# EAGLE library part P084D (library pot)
4-GANG POTENTIOMETER P08 Series, BI Technologies
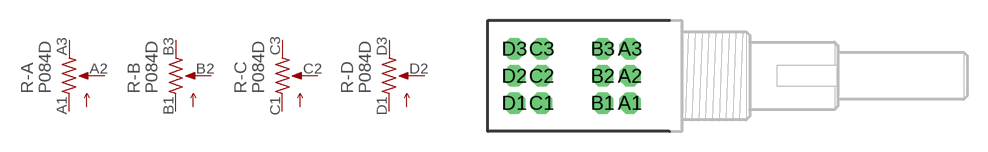
[diagram p5: symbol with the pads of P084D; footprint P084D]

Designator prefix R; gates -A=POT_US- -B=POT_US- -C=POT_US- -D=POT_US-

## P084D  [P084D]
A1  -A:1  pas
A2  -A:2  pas
A3  -A:3  pas
B1  -B:1  pas
B2  -B:2  pas
B3  -B:3  pas
C1  -C:1  pas
C2  -C:2  pas
C3  -C:3  pas
D1  -D:1  pas
D2  -D:2  pas
D3  -D:3  pas

## Footprint P084D (pad centres in mm)
4-GANG POTENTIOMETER DUAL SHAFT P08 Series, BI Technologies
drill 0.813 pad 1.575 octagon: A1 -3.8,-2; A2 -3.8,0; A3 -3.8,2; B1 -5.8,-2; B2 -5.8,0; B3 -5.8,2; C1 -10.3,-2; C2 -10.3,0; C3 -10.3,2; D1 -12.3,-2; D2 -12.3,0; D3 -12.3,2